# Altium schematic symbol library sym-0002.SchLib: 1 symbol
Pins are listed as number, name and electrical type; pins without a type are passive.

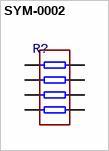
[diagram p0: symbol SYM-0002]

## SYM-0002
designator R?
Generic Resistor Pack, 4-Channel
pins: 1, 2, 3, 4, 5, 6, 7, 8
1 alternate drawing of the same symbol